# EAGLE library part ELE02_DISPLAY_LCD (library ele02)
LCD 16X2
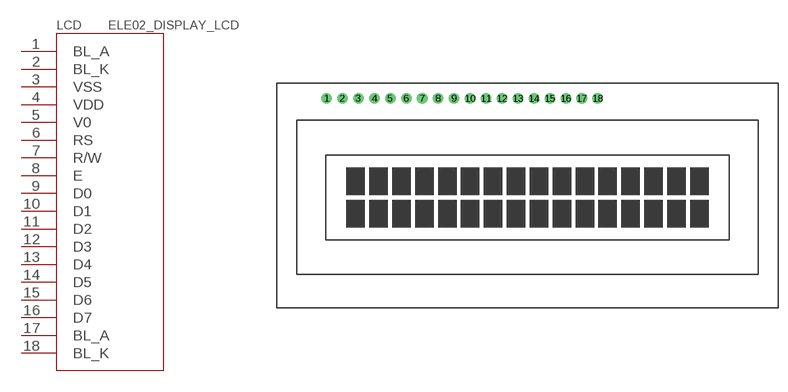
[diagram p3: symbol with the pads of ELE02_DISPLAY_LCD_BL; footprint ELE02_DISPLAY_LCD_BL]

Designator prefix LCD

## ELE02_DISPLAY_LCDDISPLAY_LCD1  [ELE02_DISPLAY_LCD_BL]
1  BL_A
2  BL_K
3  VSS
4  VDD
5  V0
6  RS
7  R/W
8  E
9  D0  nc
10  D1  nc
11  D2  nc
12  D3  nc
13  D4
14  D5
15  D6
16  D7
17  BL_A
18  BL_K

## Footprint ELE02_DISPLAY_LCD_BL (pad centres in mm)
Tuxgraphics LCD display 16x2 characters reflective, without background light Source: tuxgr_12x2_r2.pdf
drill 1 pad 1.676: 1 -32,15.5; 2 -29.46,15.5; 3 -26.92,15.5; 4 -24.38,15.5; 5 -21.84,15.5; 6 -19.3,15.5; 7 -16.76,15.5; 8 -14.22,15.5; 9 -11.68,15.5; 10 -9.14,15.5; 11 -6.6,15.5; 12 -4.06,15.5; 13 -1.52,15.5; 14 1.02,15.5; 15 3.56,15.5; 16 6.1,15.5; 17 8.64,15.5; 18 11.18,15.5